# EAGLE library part 2X3_HEADER (library CONNECTORs)
A 2 row, 3 column, 6 pin 0.1" header.
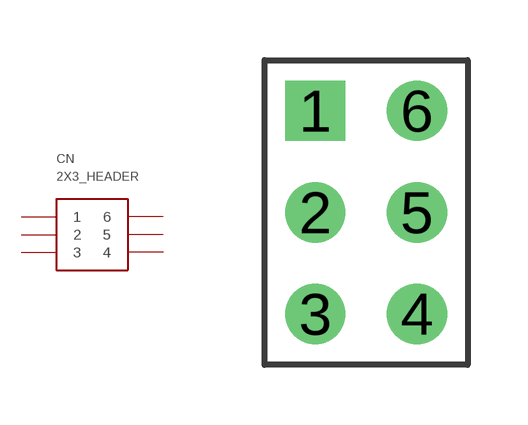
[diagram p17: symbol with the pads of 2X3HEADER; footprint 2X3HEADER]

Designator prefix CN

## 2X3_HEADER  [2X3HEADER]
1  1
2  2
3  3
4  4
5  5
6  6

## Footprint 2X3HEADER (pad centres in mm)
drill 1 pad 1.5 square: 1 -1.27,2.54
drill 1 pad 1.5: 2 -1.27,0; 3 -1.27,-2.54; 4 1.27,-2.54; 5 1.27,0; 6 1.27,2.54